# Altium footprint library DIP SWITCH.PcbLib: 4 footprints
Each footprint in its own frame and in the unit in brackets; x right, y up, seen from the top. Pads: shape width x height; smd on the part's side, far side on the other; paste and mask are expansions set on the pad; w line width, h text height; cw(c..) or ccw(c..) is an arc to the next point about the centre after c.
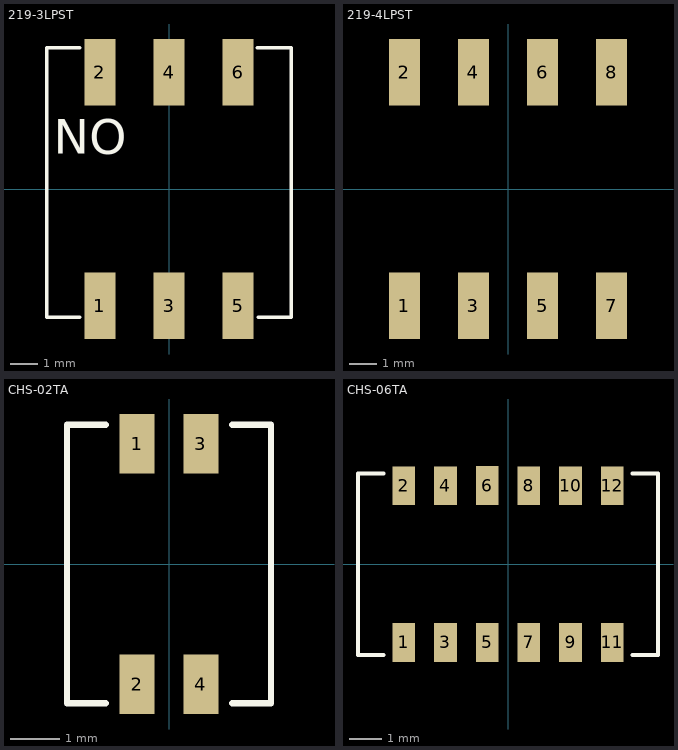
[diagram p0: the footprints below, top view; thin cyan lines are the x and y axes]

## 219-3LPST [mm]
pads (6):
  rect 1.13x2.44 smd mask+0: 1(-2.54,-4.3) 2(-2.54,4.3) 3(0,-4.3) 4(0,4.3) 5(2.54,-4.3) 6(2.54,4.3)
Top Overlay:
  lines w0.127: -3.28,-4.725 -4.505,-4.725 -4.505,5.2 -3.28,5.2 ; 3.245,5.2 4.505,5.2 4.505,-4.725 3.28,-4.725
  text "ON" at -1.55,2.575 h1.27
3D body "219-3poles.stp": height 4.31, standoff 0.01, extent -4.5,-4.73 4.59,5.18

## 219-4LPST [mm]
pads (8):
  rect 1.13x2.44 smd mask+0: 1(-3.81,-4.3) 2(-3.81,4.3) 3(-1.27,-4.3) 4(-1.27,4.3) 5(1.27,-4.3) 6(1.27,4.3) 7(3.81,-4.3) 8(3.81,4.3)
3D body "19716.stp": height 3.71, standoff 0.01, extent -5.585,-4.825 5.515,4.975

## CHS-02TA [mm]
pads (4):
  rect 0.7x1.2 smd: 1(-0.643,2.413) 2(-0.643,-2.413) 3(0.643,2.413) 4(0.643,-2.413)
Top Overlay:
  lines w0.127: -1.27,-2.794 -2.05,-2.794 -2.05,2.794 -1.27,2.794 ; 1.27,-2.794 2.05,-2.794 2.05,2.794 1.27,2.794
3D body "CHS-02TA.stp": height 2.42, standoff -0.1, extent -2.05,-2.8 2.05,2.8

## CHS-06TA [mm]
pads (12):
  rect 0.7x1.2 smd: 1(-3.213,-2.416) 2(-3.213,2.41) 3(-1.927,-2.416) 4(-1.927,2.41) 5(-0.642,-2.416) 6(-0.642,2.416) 7(0.643,-2.416) 8(0.643,2.41) 9(1.928,-2.416) 10(1.928,2.41) 11(3.213,-2.416) 12(3.213,2.41)
Top Overlay:
  lines w0.127: -3.84,-2.797 -4.62,-2.797 -4.62,2.791 -3.84,2.791 ; 3.84,-2.797 4.62,-2.797 4.62,2.791 3.84,2.791
3D body "CHS-02TA.stp": height 2.42, standoff -0.1, extent 0.505,-2.8 4.605,2.8
3D body "CHS-02TA.stp": height 2.42, standoff -0.1, extent -2.05,-2.8 2.05,2.8
3D body "CHS-02TA.stp": height 2.42, standoff -0.1, extent -4.62,-2.8 -0.52,2.8